# Altium footprint library DEV_Modules.PcbLib: 2 footprints
Each footprint in its own frame and in the unit in brackets; x right, y up, seen from the top. Pads: shape width x height; smd on the part's side, far side on the other; paste and mask are expansions set on the pad; w line width, h text height; cw(c..) or ccw(c..) is an arc to the next point about the centre after c.
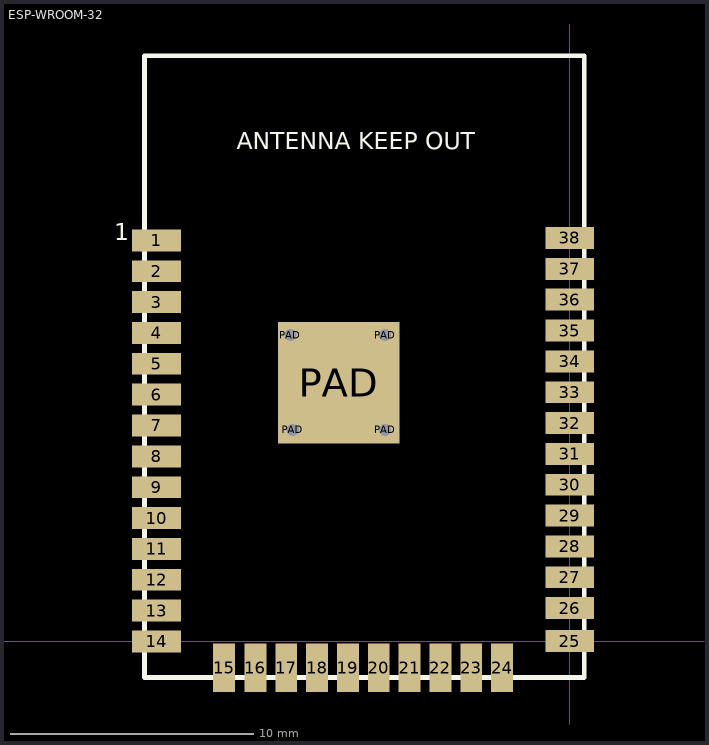
[diagram p0: the footprints below, top view; thin cyan lines are the x and y axes]

## ESP-WROOM-32 [mm] "OEM_Module"
pads (43):
  rect 2x0.9 smd: 1(-17.01,16.5) 2(-17.01,15.23) 3(-17.01,13.96) 4(-17.01,12.69) 5(-17.01,11.42) 6(-17.01,10.15) 7(-17.01,8.88) 8(-17.01,7.61) 9(-17.01,6.34) 10(-17.01,5.07) 11(-17.01,3.8) 12(-17.01,2.53) 13(-17.01,1.26) 14(-17.01,-0.01) 25(0,0) 26(0,1.36) 27(-0.005,2.63) 28(0,3.9) 29(0,5.17) 30(-0.005,6.44) 31(-0.005,7.71) 32(-0.005,8.98) 33(0,10.25) 34(0,11.52) 35(-0.005,12.79) 36(-0.005,14.06) 37(-0.005,15.33) 38(-0.005,16.6)
  rect 0.9x2 smd: 15(-14.225,-1.1) 16(-12.94,-1.1) 17(-11.67,-1.1) 18(-10.4,-1.1) 19(-9.13,-1.1) 20(-7.86,-1.1) 21(-6.59,-1.1) 22(-5.32,-1.1) 23(-4.05,-1.1) 24(-2.78,-1.1)
  rect 1x1 hole 0.5: PAD(-11.5,12.6) PAD(-11.4,8.7) PAD(-7.6,8.7) PAD(-7.6,12.6)
  rect 5x5 smd mask-2: PAD(-9.512,10.631)
Top Overlay:
  lines w0.2: -17.5,-1.5 -17.5,24.1 0.6,24.1 0.6,-1.5 -17.5,-1.5
  text "ANTENNA KEEP OUT" at -13.7,20 h1.2
  text "1" at -18.76,16.25 h1.2
3D body: height 5, standoff 2, extent -14.51,6.75 -14.51,6.75
3D body "KiCAD-ESP-WROOM-32.step": height 3.04, standoff 0, extent -17.51,-1.44 0.56,24.1

## LOLIN_ESP32 [mm] "ESP32_DEV_Module"